# Altium schematic symbol library Mostfets.SchLib: 3 symbols
Pins are listed as number, name and electrical type; pins without a type are passive.

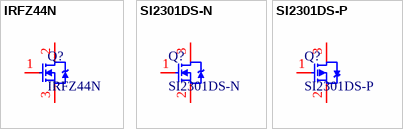
[diagram p0: symbols IRFZ44N to SI2301DS-P]

## IRFZ44N
designator Q?
footprint TO220A
pins: 1 G, 2 D, 3 S

## SI2301DS-N
designator Q?
footprint SOT23-3
pins: 1 G, 2 S, 3 D

## SI2301DS-P
designator Q?
footprint SOT23-3
pins: 1 G, 2 S, 3 D